# EAGLE library part MRF24J40MA (library karlnet-parts)
MRF24J40MA module, 802.15.4 from microchip.
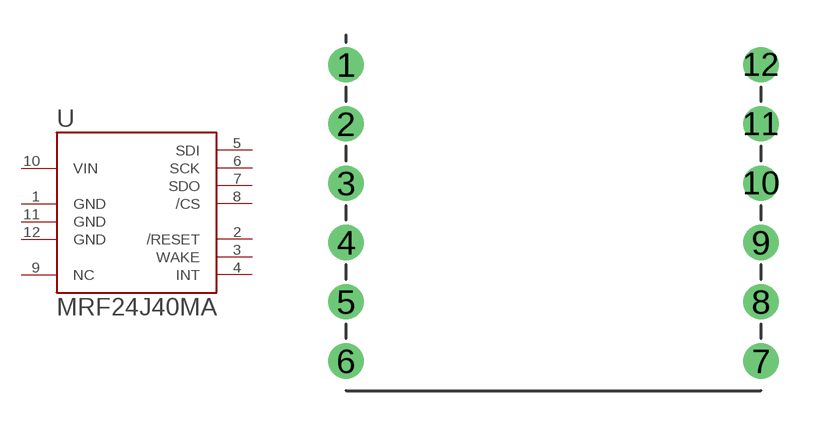
[diagram p5: symbol with the pads of MRF24J40MA; footprint MRF24J40MA]

Designator prefix -

## MRF24J40MAPINS  [MRF24J40MA]
1  GND  pwr
2  /RESET  in
3  WAKE
4  INT
5  SDI  in
6  SCK
7  SDO  out
8  /CS  in
9  NC  nc
10  VIN  pwr
11  GND  pwr
12  GND  pwr

## Footprint MRF24J40MA (pad centres in mm)
MRF24J40MA footprint, based on using 0.1" pin sockets, and hand soldered pins on the module. (drill holes 1mm) Alternatively, it should be surface mounted permanently, following the datasheet. UNPROVEN
drill 1 round: 1 -8.89,12.7; 2 -8.89,10.16; 3 -8.89,7.62; 4 -8.89,5.08; 5 -8.89,2.54; 6 -8.89,0; 7 8.89,0; 8 8.89,2.54; 9 8.89,5.08; 10 8.89,7.62; 11 8.89,10.16; 12 8.89,12.7